# Altium schematic symbol library LP2951.SchLib: 1 symbol
Pins are listed as number, name and electrical type; pins without a type are passive.

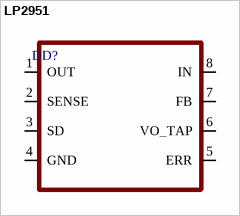
[diagram p0: symbol LP2951]

## LP2951
designator DD?
footprint SO8-150
pins: 1 OUT, 2 SENSE, 3 SD, 4 GND, 5 ERR, 6 VO_TAP, 7 FB, 8 IN